# Altium footprint library PcbLib1.PcbLib: 24 footprints (part 2 of 2)
Each footprint in its own frame and in the unit in brackets; x right, y up, seen from the top. Pads: shape width x height; smd on the part's side, far side on the other; paste and mask are expansions set on the pad; w line width, h text height; cw(c..) or ccw(c..) is an arc to the next point about the centre after c.
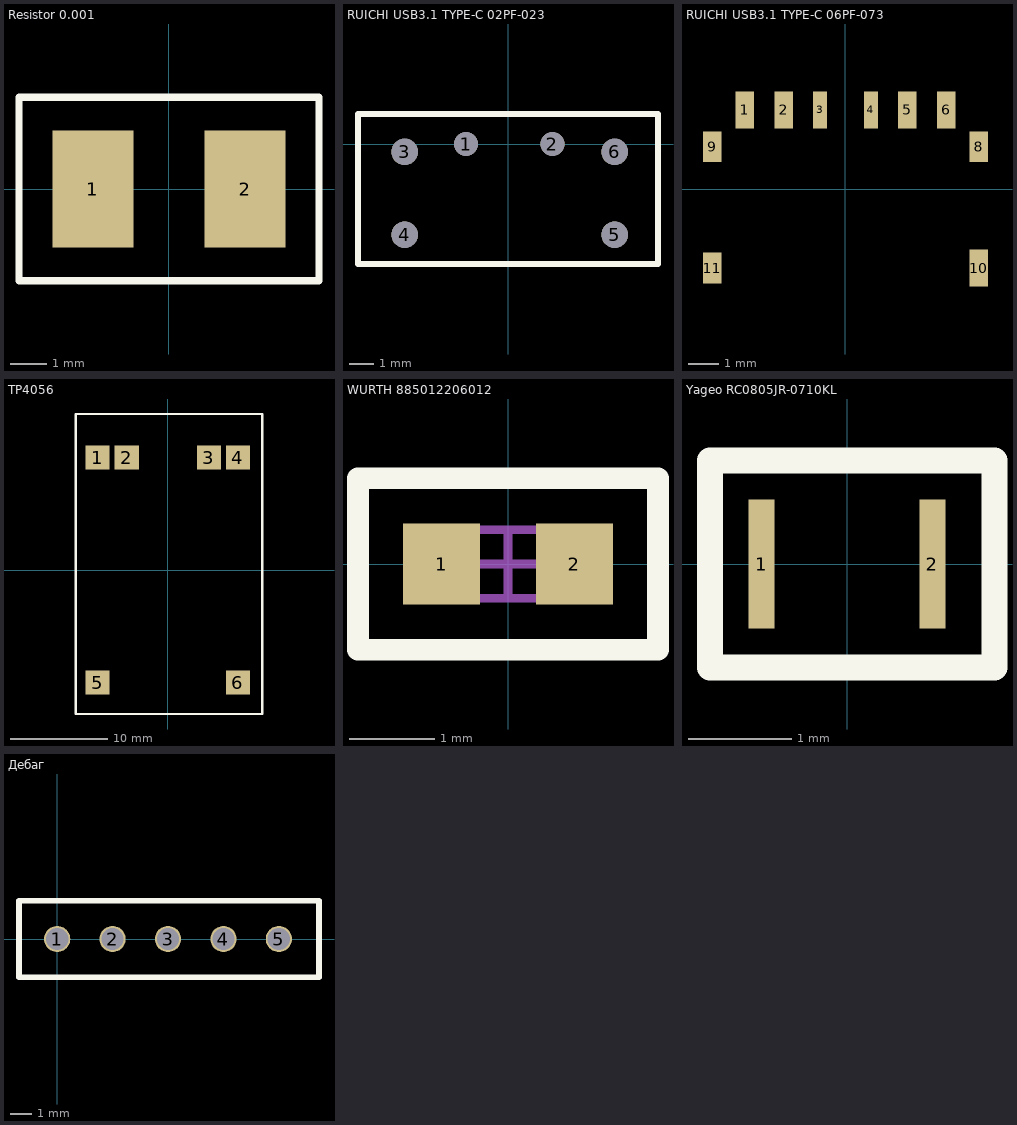
[diagram p1: the footprints below, top view; thin cyan lines are the x and y axes]

## Resistor 0.001 [mm]
pads (2):
  rect 2.21x3.18 smd: 1(-2.07,0) 2(2.07,0)
Top Overlay:
  lines w0.2: -4.085,-2.5 -4.085,0 -4.085,2.5 4.085,2.5 4.085,-2.5 -4.085,-2.5
3D body "PA2512JKF7W0R001E.STEP": height 0.88, standoff 0, extent -3.175,-1.59 3.175,1.59

## RUICHI USB3.1 TYPE-C 02PF-023 [mm]
pads (6):
  round 1 hole 1: 1(-1.75,0) 2(1.85,0)
  round 1.1 hole 1.1: 3(-4.31,-0.33) 4(-4.31,-3.78) 5(4.44,-3.78) 6(4.44,-0.33)
Top Overlay:
  lines w0.254: -6.25,-5 6.25,-5 6.25,1.25 -6.25,1.25 -6.25,-5
3D body "12401610E42A--3DModel-STEP-533217.STEP": height 3.22, standoff -0.98, extent -4.6,-6.25 4.6,4.25

## RUICHI USB3.1 TYPE-C 06PF-073 [mm]
pads (10):
  rect 0.6x1.2 smd: 1(-3.28,2.569) 2(-2.01,2.569) 5(2.01,2.569) 6(3.28,2.569)
  rect 0.45x1.2 smd: 3(-0.825,2.569) 4(0.825,2.569)
  rect 0.6x1 all layers, no hole: 8(4.325,1.371) 9(-4.325,1.371) 11(-4.325,-2.569)
  rect 0.6x1.2 all layers, no hole: 10(4.325,-2.569)
3D body "USB4105-GF-A-060--3DModel-STEP-56544.STEP": height 3.31, standoff -0.85, extent -4.395,-5.229 4.545,2.481

## TP4056 [mm]
pads (6):
  rect 2.5x2.5 smd: 1(-7.25,11.625) 2(-4.25,11.625) 3(4.25,11.625) 4(7.25,11.625) 5(-7.25,-11.625) 6(7.25,-11.625)
Top Overlay:
  lines w0.254: -9.5,-14.875 9.75,-14.875 9.75,16.125 -9.5,16.125 -9.5,-14.875
3D body "TP4056_Charging_Module_Type_C.step": height 4.14, standoff 0, extent -8.7,-14.175 8.7,15.125

## WURTH 885012206012 [mm] "Chip Capacitor, 2-Leads, Body 1,60x0,80mm, IPC Medium Density"
height 0.6
pads (2):
  rect 0.9x0.95 smd: 1(-0.775,0) 2(0.775,0)
Top Overlay:
  lines w0.254: -1.75,-1 -1.75,1 1.75,1 1.75,-1 -1.75,-1
Mechanical 13:
  lines w0.1: -0.8,-0.4 0.8,-0.4 0.8,0.4 -0.8,0.4 -0.8,-0.4
Mechanical 15:
  lines w0.1: -0.4,0 0.4,0 ; 0,-0.4 0,0.4
3D body: height 0.6, standoff 0, extent 0.4,-0.4 0.8,0.4
3D body: height 0.6, standoff 0, extent -0.8,-0.4 -0.4,0.4
3D body: height 0.6, standoff 0, extent -0.4,-0.4 0.4,0.4

## YAGEO PA2512FKF7W0R001E [mm]

## Yageo RC0805JR-0710KL [mm]
pads (2):
  rect 0.25x1.25 smd: 1(-0.825,0) 2(0.825,0)
Top Overlay:
  lines w0.254: -1.325,-1 1.425,-1 1.425,1 -1.325,1 -1.325,-1
3D body "RC0805JR-070RL.STEP": height 0.6, standoff 0, extent -1,-0.625 1,0.625

## Дебаг [mm]
pads (5):
  round 1.2 hole 1.02: 1(0,0) 2(2.54,0) 3(5.08,0) 4(7.62,0) 5(10.16,0)
Top Overlay:
  lines w0.254: -1.75,-1.75 -1.75,1.75 12,1.75 12,-1.75 -1.75,-1.75
3D body "DS1021-1_5SF1-1.STEP": height 8.6, standoff -3, extent -1.27,-1.27 11.43,1.27